# EAGLE library part DRV8833_BOARD (library DRV8833board)
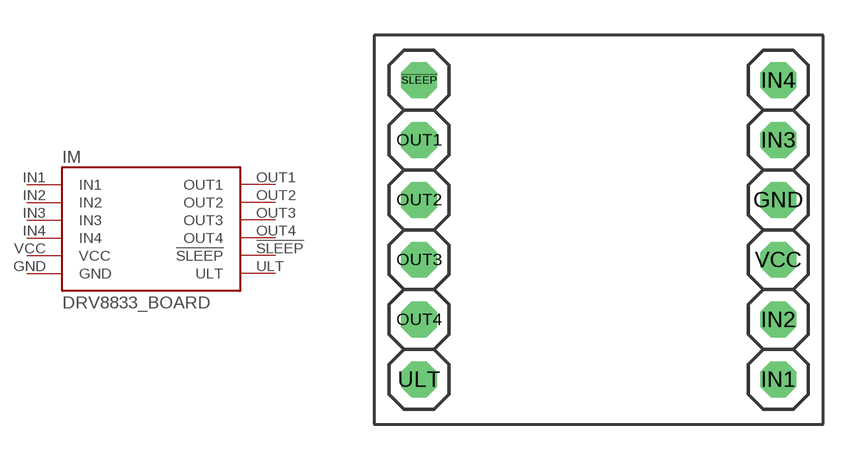
[diagram p0: symbol with the pads of PINHEAD; footprint PINHEAD]

Designator prefix IM

## DRV8833_BOARD  [PINHEAD]
!SLEEP  !SLEEP
GND  GND
IN1  IN1
IN2  IN2
IN3  IN3
IN4  IN4
OUT1  OUT1
OUT2  OUT2
OUT3  OUT3
OUT4  OUT4
ULT  ULT
VCC  VCC

## Footprint PINHEAD (pad centres in mm)
drill 1.016 octagon: !SLEEP 1.27,13.97; GND 16.51,8.89; IN1 16.51,1.27; IN2 16.51,3.81; IN3 16.51,11.43; IN4 16.51,13.97; OUT1 1.27,11.43; OUT2 1.27,8.89; OUT3 1.27,6.35; OUT4 1.27,3.81; ULT 1.27,1.27; VCC 16.51,6.35